# EAGLE library part IRS2110 (library Skoba)
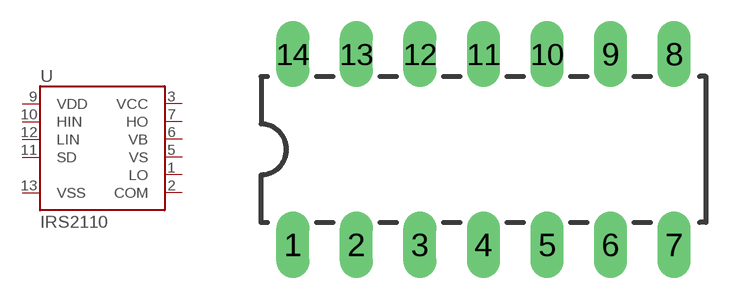
[diagram p38: symbol with the pads of DIL14; footprint DIL14]

Designator prefix U

## IRS2110DIL14  [DIL14]
1  LO
2  COM
3  VCC
5  VS
6  VB
7  HO
9  VDD
10  HIN
11  SD
12  LIN
13  VSS

## Footprint DIL14 (pad centres in mm)
drill 0.813 long: 1 -8.89,-3.81; 2 -6.35,-3.81; 3 -3.81,-3.81; 4 -1.27,-3.81; 5 1.27,-3.81; 6 3.81,-3.81; 7 6.35,-3.81; 8 6.35,3.81; 9 3.81,3.81; 10 1.27,3.81; 11 -1.27,3.81; 12 -3.81,3.81; 13 -6.35,3.81; 14 -8.89,3.81